# Altium schematic symbol library SW-DPDT-2.SchLib: 1 symbol
Pins are listed as number, name and electrical type; pins without a type are passive.

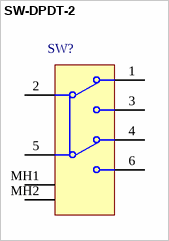
[diagram p0: symbol SW-DPDT-2]

## SW-DPDT-2
designator SW?
pins: 1, 2, 3, 4, 5, 6, MH1, MH2